# Altium schematic symbol library CAS_MainBoard.SchLib: 15 symbols
Pins are listed as number, name and electrical type; pins without a type are passive.

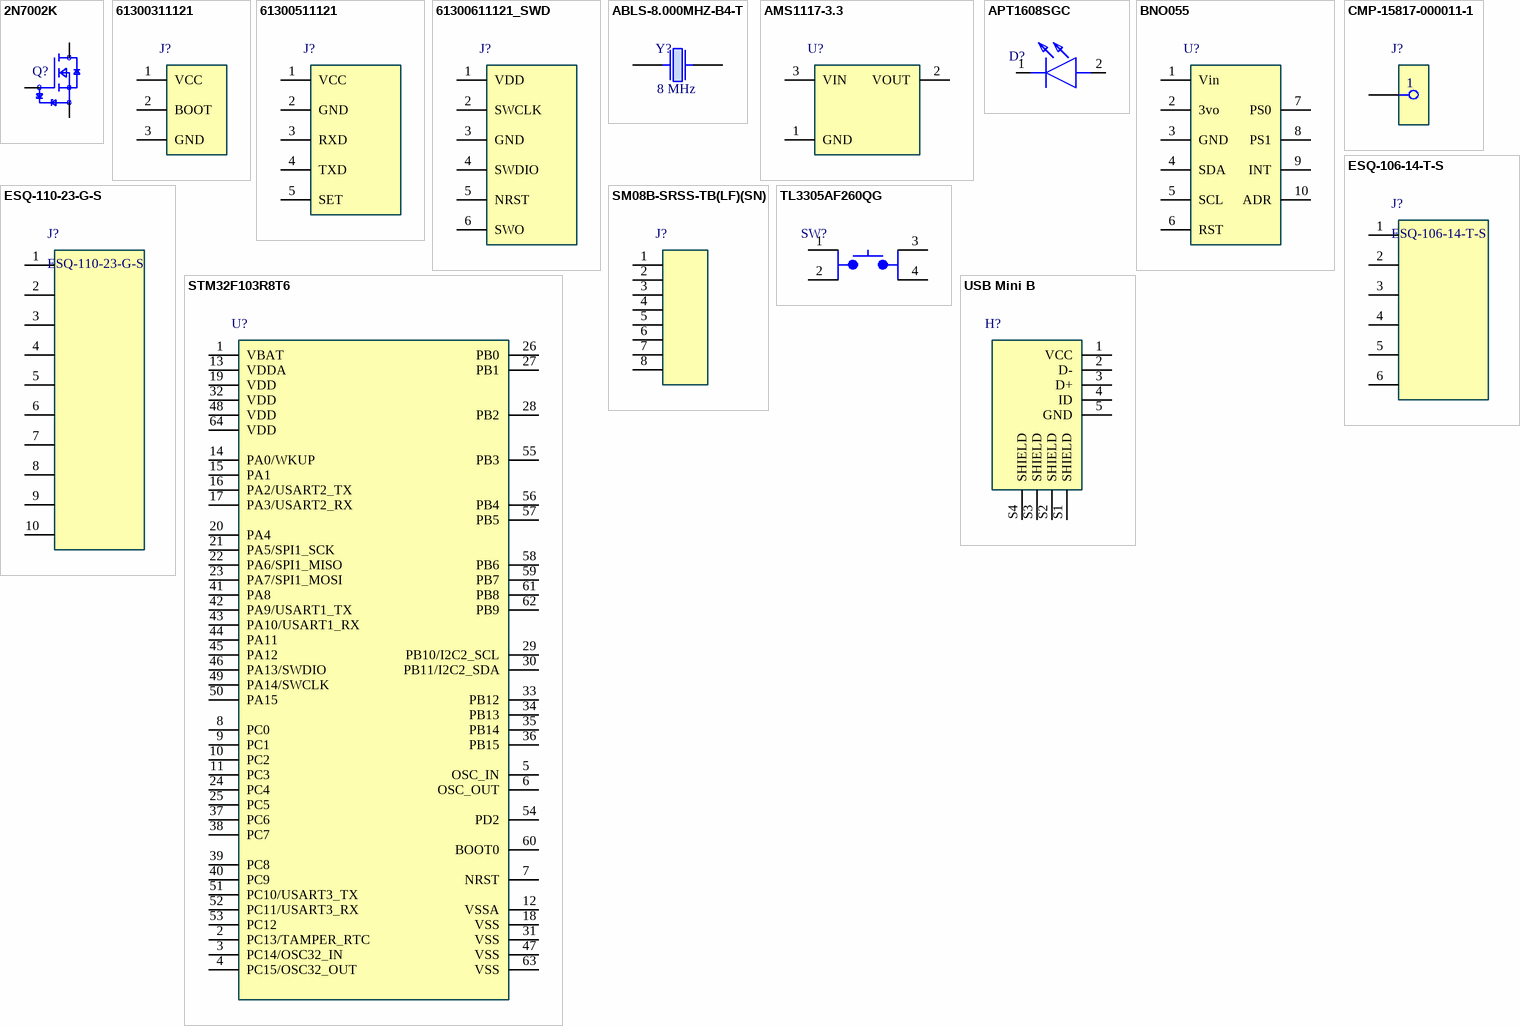
[diagram p0: symbols 2N7002K to USB Mini B]

## 2N7002K
designator Q?  (value not drawn)
MOSFET N-CH 60V 320MA SOT23; Manufacturer: ON Semiconductor / Fairchild; Continuous Drain Current (ID): 300mA; Drain to Source Resistance: 2R; Power Dissipation: 350mW; Turn-Off Delay Time: 30ns; Gate to Source Voltage (Vgs): 20V; Input Capacitance: 50pF; Turn-On Delay Time: 5ns; Polarity: N-CHANNEL; Threshold Voltage: 2.5V; Designed by: ADAK; Supplier 1: Digi-Key; Manufacturer Part Number: 2N7002K; RoHS: Yes; Stock 1: 15630; Pricing 1: 1=0,34, 10=0,236, 100=0,1194, 500=0,09738, 1000=0,07225 (USD); Mount: Surface Mount; Case/Package: TO-236-3; Number of Pins: 3; Min Operating Temperature: -55°C; Max Operating Temperature: 150°C; Max Power Dissipation: 350mW; Packaging: Tape and Reel; Package Quantity: 3000; Rds On Max: 2R; Drain to Source Breakdown Voltage: 60V; Drain to Source Voltage (Vdss): 60V; Series: -; Drain-source On Resistance-Max: 2R; Voltage: 60V; Length: 2.92mm; Width: 1.3mm; Height: 1.2mm; Lead Free: Lead Free; RoHS Compliant: No; Reach SVHC Compliant: No; ComponentLink1URL: https://datasheet.ciiva.com/3304/2n7002k-3304391.pdf?src-supplier=Avnet; ComponentLink1Description: https://datasheet.ciiva.com/3304/2n7002k-3304391.pdf?src-supplier=Avnet; ComponentLink2URL: https://datasheet.ciiva.com/15208/getdatasheetpartid-250560-15208446.pdf?src-supplier=Verical; ComponentLink2Description: https://datasheet.ciiva.com/15208/getdatasheetpartid-250560-15208446.pdf?src-supplier=Verical; ComponentLink3URL: https://datasheet.ciiva.com/46422/1868855-46422103.pdf?src-supplier=Element14; ComponentLink3Description: https://datasheet.ciiva.com/46422/1868855-46422103.pdf?src-supplier=Element14; ComponentLink4URL: https://datasheet.ciiva.com/16822/2n7002k-16822423.pdf?src-supplier=Future+Electronics; ComponentLink4Description: https://datasheet.ciiva.com/16822/2n7002k-16822423.pdf?src-supplier=Future+Electronics; Supplier Part Number 1: 2N7002KCT-ND
footprint SOT23-3
pins: 1 G, 2 S, 3 D

## 61300311121
designator J?  (value not drawn)
CONN HEADER VERT 3POS 2.54MM; Manufacturer: Wurth Electronics; Number of Positions: 3; Gender: Male; Contact Resistance: 20mR; Current Rating: 3A; Operating Supply Voltage: 250V; Pitch: 0.1inch; Designed by: ADAK; Supplier 1: Digi-Key; Manufacturer Part Number: 61300311121; RoHS: Yes; Category: Connectors; Stock 1: 245320; Pricing 1: 1=0,13, 10=0,113, 25=0,094, 50=0,079, 100=0,071, 1000=0,066 (USD); Mount: Through Hole; Contact Plating: Gold; Contact Material: Copper; Color: Black; Min Operating Temperature: -40°C; Max Operating Temperature: 105°C; Number of Rows: 1; Packaging: Bulk; Termination: Solder; Number of Contacts: 3; Series: WR-PHD; Contact Type: Male Pin; Orientation: 5495OrientationType; Voltage Rating: 250V; Height: 8.94mm; Contact Mating Length: 0.236inch; Lead Free: Lead Free; RoHS Compliant: Yes; Reach SVHC Compliant: Unknown; ComponentLink1URL: http://www.farnell.com/cad/1737268.pdf?src-supplier=Element14; ComponentLink1Description: http://www.farnell.com/cad/1737268.pdf?src-supplier=Element14; ComponentLink2URL: https://datasheet.octopart.com/61300311121-W%C3%BCrth-Elektronik-datasheet-21154836.pdf?src-supplier=Element14; ComponentLink2Description: https://datasheet.octopart.com/61300311121-W%C3%BCrth-Elektronik-datasheet-21154836.pdf?src-supplier=Element14; ComponentLink3URL: https://katalog.we-online.de/em/datasheet/6130xx11121.pdf?src-supplier=Digi-Key; ComponentLink3Description: https://katalog.we-online.de/em/datasheet/6130xx11121.pdf?src-supplier=Digi-Key; Supplier Part Number 1: 732-5316-ND
footprint BOOT HEADER
pins: 1 VCC, 2 BOOT, 3 GND

## 61300511121
designator J?  (value not drawn)
CONN HEADER VERT 5POS 2.54MM; Manufacturer: Wurth Electronics; Number of Positions: 5; Gender: Male; Pitch: 0.1inch; Designed by: ADAK; Supplier 1: Digi-Key; Manufacturer Part Number: 61300511121; RoHS: Yes; Category: Headers and Wire Housings; Stock 1: 26862; Pricing 1: 1=0,26, 10=0,222, 25=0,1852, 50=0,155, 100=0,141, 1000=0,128 (USD); Mount: Through Hole; Contact Plating: Gold; Contact Material: Copper; Color: Black; Number of Rows: 1; Packaging: Bulk; Termination: Solder; Number of Contacts: 5; Series: WR-PHD; Contact Type: Male Pin; Contact Mating Length: 0.236inch; Lead Free: Lead Free; RoHS Compliant: Yes; Reach SVHC Compliant: Unknown; ComponentLink1URL: http://www.farnell.com/cad/1737268.pdf?src-supplier=Element14; ComponentLink1Description: http://www.farnell.com/cad/1737268.pdf?src-supplier=Element14; ComponentLink2URL: https://datasheet.octopart.com/61300511121-W%C3%BCrth-Elektronik-datasheet-21154836.pdf?src-supplier=Element14; ComponentLink2Description: https://datasheet.octopart.com/61300511121-W%C3%BCrth-Elektronik-datasheet-21154836.pdf?src-supplier=Element14; ComponentLink3URL: https://katalog.we-online.de/em/datasheet/6130xx11121.pdf?src-supplier=Digi-Key; ComponentLink3Description: https://katalog.we-online.de/em/datasheet/6130xx11121.pdf?src-supplier=Digi-Key; Supplier Part Number 1: 732-5318-ND
footprint CONN 5POS
pins: 1 VCC, 2 GND, 3 RXD, 4 TXD, 5 SET

## 61300611121_SWD
designator J?, comment 61300611121  (value not drawn)
CONN HEADER VERT 6POS 2.54MM; Manufacturer: Wurth Electronics; Current Rating: 3A; Voltage Rating: 250V; Number of Positions: 6; Gender: Male; Contact Resistance: 20mR; Pitch: 0.1inch; Designed by: ADAK; Supplier 1: Digi-Key; Manufacturer Part Number: 61300611121; RoHS: Yes; Category: Headers and Wire Housings; Stock 1: 29677; Pricing 1: 1=0,35, 10=0,298, 25=0,2472, 50=0,207, 100=0,187, 1000=0,171 (USD); Mount: Through Hole; Contact Plating: Gold; Contact Material: Copper Alloy,Copper; Housing Material: PBT; Color: Black; Min Operating Temperature: -40°C; Max Operating Temperature: 125°C; Number of Rows: 1; Contact Gender: Male; Packaging: Bulk; Termination: Through Hole; Number of Contacts: 6; Series: WR-PHD; Contact Type: Male Pin; Operating Supply Voltage: 250V; Orientation: 5495OrientationType; Height: 8.89mm; Contact Mating Length: 0.236inch; Lead Free: Lead Free; RoHS Compliant: Yes; Reach SVHC Compliant: Unknown; ComponentLink1URL: http://www.mouser.com/ds/2/445/6130xx11121-538006.pdf?src-supplier=Mouser; ComponentLink1Description: http://www.mouser.com/ds/2/445/6130xx11121-538006.pdf?src-supplier=Mouser; ComponentLink2URL: http://www.farnell.com/cad/1737268.pdf?src-supplier=Element14; ComponentLink2Description: http://www.farnell.com/cad/1737268.pdf?src-supplier=Element14; ComponentLink3URL: https://datasheet.octopart.com/61300611121-W%C3%BCrth-Elektronik-datasheet-21154836.pdf?src-supplier=Element14; ComponentLink3Description: https://datasheet.octopart.com/61300611121-W%C3%BCrth-Elektronik-datasheet-21154836.pdf?src-supplier=Element14; ComponentLink4URL: https://katalog.we-online.de/em/datasheet/6130xx11121.pdf?src-supplier=Digi-Key; ComponentLink4Description: https://katalog.we-online.de/em/datasheet/6130xx11121.pdf?src-supplier=Digi-Key; Supplier Part Number 1: 732-5319-ND
footprint SWD HEADER
pins: 1 VDD, 2 SWCLK, 3 GND, 4 SWDIO, 5 NRST, 6 SWO

## ABLS-8.000MHZ-B4-T
designator Y?  Frequency: 8 MHz  (hidden comment: ABLS-8.000MHZ-B4-T)
CRYSTAL 8.0000MHZ 18PF SMD; Manufacturer: Abracon; Designed by: ADAK; Supplier 1: Digi-Key; Manufacturer Part Number: ABLS-8.000MHZ-B4-T; RoHS: Yes; Category: Crystals; Stock 1: 30282; Pricing 1: 1=0,2, 10=0,17, 50=0,153, 100=0,136, 500=0,12916 (USD); ComponentLink1URL: https://datasheet.ciiva.com/4944/abls-44621-4944748.pdf?src-supplier=Mouser; ComponentLink1Description: https://datasheet.ciiva.com/4944/abls-44621-4944748.pdf?src-supplier=Mouser; ComponentLink2URL: https://datasheet.ciiva.com/3175/abls-3175446.pdf?src-supplier=Avnet; ComponentLink2Description: https://datasheet.ciiva.com/3175/abls-3175446.pdf?src-supplier=Avnet; ComponentLink3URL: https://datasheet.ciiva.com/854/abls-854117.pdf?src-supplier=Digi-Key; ComponentLink3Description: https://datasheet.ciiva.com/854/abls-854117.pdf?src-supplier=Digi-Key; ComponentLink4URL: https://datasheet.ciiva.com/854/abls-854118.pdf?src-supplier=Digi-Key; ComponentLink4Description: https://datasheet.ciiva.com/854/abls-854118.pdf?src-supplier=Digi-Key; ComponentLink5URL: https://datasheet.ciiva.com/854/abls-854119.pdf?src-supplier=Digi-Key; ComponentLink5Description: https://datasheet.ciiva.com/854/abls-854119.pdf?src-supplier=Digi-Key; Supplier Part Number 1: 535-10212-1-ND
footprint OSCILLATOR
pins: 1, 2

## AMS1117-3.3
designator U?  (value not drawn)
Low Dropout Voltage Regulatator SOT-223 1A 3.3V; Designed byy: ADAK; Package: SOT-223; Voltage-Output(Fixed): 3.3V; Current: 1A
footprint SOT-223
pins: 1 GND, 2 VOUT, 3 VIN

## APT1608SGC
designator D?  (value not drawn)
LED GREEN CLEAR 0603 SMD; Manufacturer: Kingbright; Forward Voltage: 2.2V; Viewing Angle: 120°; Forward Current: 20mA; Luminous Intensity: 15mcd; Lens Style: Clear,Flat; Dominant Wavelength: 568nm; Number of LEDs: 1; Designed by: ADAK; Supplier 1: Digi-Key; Manufacturer Part Number: APT1608SGC; RoHS: Yes; Category: LEDs; Stock 1: 140236; Pricing 1: 1=0,29, 10=0,23, 100=0,1033, 500=0,09332, 1000=0,07666 (USD); Mount: Surface Mount; Case/Package: 0603; Number of Pins: 2; Color: Green; Case Code (Metric): 1608; Case Code (Imperial): 0603; Lens Color: Clear; Min Operating Temperature: -40°C; Max Operating Temperature: 85°C; Package Quantity: 2000; Illumination Color: Green; Packaging: Tape and Reel; Test Current: 20mA; Wavelength: 568nm; Series: APT; Length: 1.6mm; Width: 0.8mm; Height: 0.75mm; Lead Free: Lead Free; RoHS Compliant: Yes; ComponentLink1URL: https://datasheet.ciiva.com/12400/apt1608sgc-32861-12400932.pdf?src-supplier=Mouser; ComponentLink1Description: https://datasheet.ciiva.com/12400/apt1608sgc-32861-12400932.pdf?src-supplier=Mouser; ComponentLink2URL: https://datasheet.ciiva.com/2113/apt1608sgc-2113808.pdf?src-supplier=Digi-Key; ComponentLink2Description: https://datasheet.ciiva.com/2113/apt1608sgc-2113808.pdf?src-supplier=Digi-Key; ComponentLink3URL: https://datasheet.ciiva.com/14603/70062839-14603927.pdf?src-supplier=Allied+Electronics; ComponentLink3Description: https://datasheet.ciiva.com/14603/70062839-14603927.pdf?src-supplier=Allied+Electronics; Supplier Part Number 1: 754-1121-1-ND
footprint LED GREEN
pins: 1 K, 2 A

## BNO055
designator U?  (value not drawn)
IMU ACCEL/GYRO/MAG I2C 28LGA; Manufacturer: Bosch; Designed by: ADAK; Supplier 1: Future Electronics; Manufacturer Part Number: BNO055; RoHS: No; Category: Inertial Measurement Units (IMUs); Pricing 1: 4000=6,41 (USD); ComponentLink1URL: https://ae-bst.resource.bosch.com/media/_tech/media/application_notes/BST-BNO055-HS000.pdf ?src-supplier=Digi-Key; ComponentLink1Description: https://ae-bst.resource.bosch.com/media/_tech/media/application_notes/BST-BNO055-HS000.pdf ?src-supplier=Digi-Key; ComponentLink2URL: https://datasheet.octopart.com/BNO055-Bosch-Sensortec-datasheet-127364294.pdf?src-supplier=LKR; ComponentLink2Description: https://datasheet.octopart.com/BNO055-Bosch-Sensortec-datasheet-127364294.pdf?src-supplier=LKR; Supplier Part Number 1: 8159159
footprint BNO055
pins: 1 Vin, 2 3vo, 3 GND, 4 SDA, 5 SCL, 6 RST, 7 PS0, 8 PS1, 9 INT, 10 ADR

## CMP-15817-000011-1
designator J?  (value not drawn)
PC TEST POINT NATURAL; Body Material: Brass; Plating: Tin; Designed by: ADAK; Material: Copper Alloy; Mount: Surface Mount; Color: Natural; Packaging: Tape and Reel; RoHS Compliant: Yes
footprint PC TEST POINT
pins: 1

## ESQ-106-14-T-S
designator J?
CONN SOCKET 6POS 0.1 TIN PCB; Manufacturer: Samtec; Designed by: ADAK; Supplier 1: Digi-Key; Manufacturer Part Number: ESQ-106-14-T-S; RoHS: Yes; Category: Connectors; Stock 1: 1096; Pricing 1: 1=1,61, 10=1,4, 100=1,2514, 500=1,04282, 1000=0,89385, 5000=0,79255, 10000=0,77467 (USD); ComponentLink1URL: http://www.farnell.com/datasheets/1992053.pdf?src-supplier=Farnell; ComponentLink1Description: http://www.farnell.com/datasheets/1992053.pdf?src-supplier=Farnell; ComponentLink2URL: http://suddendocs.samtec.com/catalog_english/esq_th.pdf?src-supplier=Digi-Key; ComponentLink2Description: http://suddendocs.samtec.com/catalog_english/esq_th.pdf?src-supplier=Digi-Key; ComponentLink3URL: http://www.samtec.com/documents/webfiles/pdf/ESW_TH.PDF?src-supplier=Avnet; ComponentLink3Description: http://www.samtec.com/documents/webfiles/pdf/ESW_TH.PDF?src-supplier=Avnet; ComponentLink4URL: https://datasheet.octopart.com/ESQ-106-14-T-S-Samtec-datasheet-118235298.pdf?src-supplier=Sager+Electronics; ComponentLink4Description: https://datasheet.octopart.com/ESQ-106-14-T-S-Samtec-datasheet-118235298.pdf?src-supplier=Sager+Electronics; ComponentLink5URL: https://datasheet.octopart.com/ESQ-106-14-T-S-Samtec-datasheet-96977576.pdf?src-supplier=Samtec; ComponentLink5Description: https://datasheet.octopart.com/ESQ-106-14-T-S-Samtec-datasheet-96977576.pdf?src-supplier=Samtec; ComponentLink6URL: https://datasheet.octopart.com/ESQ-106-14-T-S-Samtec-datasheet-136395355.pdf?src-supplier=Toby+Electronics; ComponentLink6Description: https://datasheet.octopart.com/ESQ-106-14-T-S-Samtec-datasheet-136395355.pdf?src-supplier=Toby+Electronics; Supplier Part Number 1: SAM9298-ND
footprint CONN 6POS
pins: 1, 2, 3, 4, 5, 6

## ESQ-110-23-G-S
designator J?
CONN SOCKET 10POS 0.1 GOLD PCB; Manufacturer: Samtec; Gender: Receptacle; Number of Positions: 10; Max Current Rating: 6.9A; Max Voltage Rating (AC): 550V; Contact Resistance: 10mR; Pitch: 2.54mm; Designed by: ADAK; Supplier 1: Digi-Key; Manufacturer Part Number: ESQ-110-23-G-S; RoHS: Yes; Category: Headers and Wire Housings; Stock 1: 2188; Pricing 1: 1=4,37, 10=3,966, 100=3,4946, 500=2,9704, 1000=2,53358 (USD); Contact Material: Bronze; Contact Plating: Gold; Contact Finish - Mating: GOLD; Insulation Color: Black; Insulation Material: Polymer; Contact Shape: Square; Housing Color: Black; Housing Material: Polyester; Min Operating Temperature: -55°C; Max Operating Temperature: 125°C; Number of Rows: 1; Packaging: Rail/Tube; Termination: Solder; Series: ESQ; Contact Type: Forked; Number of Contacts: 10; Fastening Type: Pull; Orientation: Straight; Voltage Rating (AC): 550V; Length: 25.91mm; Depth: 2.41mm; Radiation Hardening: No; RoHS Compliant: Yes; Flammability Rating: UL94 V-0; Reach SVHC Compliant: No; ComponentLink1URL: https://www.verical.com/server-webapp/html/getDatasheet?partID=303742&src-supplier=Verical; ComponentLink1Description: https://www.verical.com/server-webapp/html/getDatasheet?partID=303742&src-supplier=Verical; ComponentLink2URL: http://www.farnell.com/datasheets/1992053.pdf?src-supplier=Farnell; ComponentLink2Description: http://www.farnell.com/datasheets/1992053.pdf?src-supplier=Farnell; ComponentLink3URL: http://components.arrow.com/part/dataview/2752997S7330441N1004?src-supplier=Arrow+Electronics; ComponentLink3Description: http://components.arrow.com/part/dataview/2752997S7330441N1004?src-supplier=Arrow+Electronics; ComponentLink4URL: http://www.samtec.com/documents/webfiles/pdf/ESW_TH.PDF?src-supplier=Avnet; ComponentLink4Description: http://www.samtec.com/documents/webfiles/pdf/ESW_TH.PDF?src-supplier=Avnet; ComponentLink5URL: http://suddendocs.samtec.com/prints/esq-1xx-xx-x-x-xxx-xx-x-xx-mkt.pdf?src-supplier=Digi-Key; ComponentLink5Description: http://suddendocs.samtec.com/prints/esq-1xx-xx-x-x-xxx-xx-x-xx-mkt.pdf?src-supplier=Digi-Key; Supplier Part Number 1: SAM11097-ND
footprint CONN 10POS
pins: 1, 2, 3, 4, 5, 6, 7, 8, 9, 10

## SM08B-SRSS-TB(LF)(SN)
designator J?  (value not drawn)
CONN HEADER SMD R/A 8POS 1MM; Manufacturer: JST; Designed by: ADAK; Supplier 1: Farnell; Manufacturer Part Number: SM08B-SRSS-TB(LF)(SN); RoHS: Yes; Category: Connectors; Stock 1: 75448; Pricing 1: 10=0,498, 100=0,372, 500=0,364, 1000=0,357, 2500=0,349, 5000=0,342 (EUR); ComponentLink1URL: https://datasheet.ciiva.com/11752/0900766b8082f54b-11752174.pdf?src-supplier=Rs; ComponentLink1Description: https://datasheet.ciiva.com/11752/0900766b8082f54b-11752174.pdf?src-supplier=Rs; ComponentLink2URL: https://datasheet.ciiva.com/8052/91630-8052285.pdf?src-supplier=Element14; ComponentLink2Description: https://datasheet.ciiva.com/8052/91630-8052285.pdf?src-supplier=Element14; ComponentLink3URL: https://datasheet.ciiva.com/729/esr-729838.pdf?src-supplier=Digi-Key; ComponentLink3Description: https://datasheet.ciiva.com/729/esr-729838.pdf?src-supplier=Digi-Key; ComponentLink4URL: https://datasheet.ciiva.com/712/esr-712599.pdf?src-supplier=Digi-Key; ComponentLink4Description: https://datasheet.ciiva.com/712/esr-712599.pdf?src-supplier=Digi-Key; ComponentLink5URL: https://datasheet.ciiva.com/712/esr-712600.pdf?src-supplier=Digi-Key; ComponentLink5Description: https://datasheet.ciiva.com/712/esr-712600.pdf?src-supplier=Digi-Key; ComponentLink6URL: https://datasheet.ciiva.com/16487/esr-16487087.pdf?src-supplier=Future+Electronics; ComponentLink6Description: https://datasheet.ciiva.com/16487/esr-16487087.pdf?src-supplier=Future+Electronics; Supplier Part Number 1: 1679124
footprint 8 PIN HEADER
pins: 1, 2, 3, 4, 5, 6, 7, 8

## STM32F103R8T6
designator U?  (value not drawn)
IC MCU 32BIT 64KB 72MHz FLASH 64LQFP; Manufacturer: STMicroelectronics; RAM Size: 20KB; Max Power Dissipation: 444mW; Interface: I2C,SPI,USB,IrDA,UART,USART,CAN,LIN; Number of I/Os: 51; Number of Timers/Counters: 4; Max Supply Voltage: 3.6V; Number of ADC Channels: 16; Min Supply Voltage: 2V; Oscillator Type: Internal; Number of Programmable I/O: 64; Data Bus Width: 32b; Watchdog Timer: Yes; Peripherals: POR,PWM,WDT,DMA,Temp Sensor,I2C; Core Architecture: ARM; Number of PWM Channels: 1; Number of Bits: 32; Number of SPI Channels: 2; Designed by: ADAK; Manufacturer Part Number: STM32F103R8T6; RoHS: Yes; Category: Microcontrollers; Stock 1: 2429; Pricing 1: 1=6,91, 10=6,239, 25=5,9492, 160=5,1655, 320=4,93334, 480=4,49804, 960=3,91765, 2400=3,77255 (USD); Case/Package: LQFP; Number of Pins: 64; Min Operating Temperature: -40°C; Max Operating Temperature: 85°C; Frequency: 72MHz; Package Quantity: 160; Packaging: Tray; Max Frequency: 72MHz; Memory Type: FLASH; Memory Size: 64KB; Series: STM32F1; Density: 64KB; Number of I2C Channels: 2; Termination: SMD/SMT; Address Bus Width: 32b; Length: 10mm; Width: 10mm; Height: 1.45mm; Radiation Hardening: No; Lead Free: Lead Free; RoHS Compliant: Yes; Reach SVHC Compliant: No; Supplier Part Number 1: 497-6065-ND; Supplier 1: Digi-Key
footprint LQFP 64
pins: 1 VBAT, 2 PC13/TAMPER_RTC, 3 PC14/OSC32_IN, 4 PC15/OSC32_OUT, 5 OSC_IN, 6 OSC_OUT, 7 NRST, 8 PC0, 9 PC1, 10 PC2, 11 PC3, 12 VSSA, 13 VDDA, 14 PA0/WKUP, 15 PA1, 16 PA2/USART2_TX, 17 PA3/USART2_RX, 18 VSS, 19 VDD, 20 PA4, 21 PA5/SPI1_SCK, 22 PA6/SPI1_MISO, 23 PA7/SPI1_MOSI, 24 PC4, 25 PC5, 26 PB0, 27 PB1, 28 PB2, 29 PB10/I2C2_SCL, 30 PB11/I2C2_SDA, 31 VSS, 32 VDD, 33 PB12, 34 PB13, 35 PB14, 36 PB15, 37 PC6, 38 PC7, 39 PC8, 40 PC9, 41 PA8, 42 PA9/USART1_TX, 43 PA10/USART1_RX, 44 PA11, 45 PA12, 46 PA13/SWDIO, 47 VSS, 48 VDD, 49 PA14/SWCLK, 50 PA15, 51 PC10/USART3_TX, 52 PC11/USART3_RX, 53 PC12, 54 PD2, 55 PB3, 56 PB4, 57 PB5, 58 PB6, 59 PB7, 60 BOOT0, 61 PB8, 62 PB9, 63 VSS, 64 VDD

## TL3305AF260QG
designator SW?  (value not drawn)
SWITCH TACTILE SPST-NO 50MA 12V; Manufacturer: E-Switch; Mechanical Life: 200000Cycles; Illumination Type: Non-Illuminated; Operating Force: 260gf; Throw Configuration: SPST; Switch Travel: 0.2mm; Switch Function: Off-Mom; Actuator Type: Standard; Designed by: ADAK; Supplier 1: Digi-Key; Manufacturer Part Number: TL3305AF260QG; RoHS: No; Category: Tactile Switches; Stock 1: 54069; Pricing 1: 1=0,21, 10=0,205, 25=0,1944, 100=0,176, 250=0,16048, 500=0,14918, 1000=0,12726 (USD); Mount: Surface Mount; Min Operating Temperature: -20°C; Max Operating Temperature: 70°C; Packaging: Cut Tape; Termination: Gull Wing; Series: TL3305; Lead Free: Lead Free; ComponentLink1URL: http://www.farnell.com/datasheets/2554191.pdf?src-supplier=Farnell; ComponentLink1Description: http://www.farnell.com/datasheets/2554191.pdf?src-supplier=Farnell; ComponentLink2URL: http://www.farnell.com/datasheets/2554191.pdf?src-supplier=Newark; ComponentLink2Description: http://www.farnell.com/datasheets/2554191.pdf?src-supplier=Newark; ComponentLink3URL: http://spec_sheets.e-switch.com/specs/P010471.pdf?src-supplier=Mouser; ComponentLink3Description: http://spec_sheets.e-switch.com/specs/P010471.pdf?src-supplier=Mouser; ComponentLink4URL: http://www.farnell.com/datasheets/2554191.pdf?src-supplier=Element14; ComponentLink4Description: http://www.farnell.com/datasheets/2554191.pdf?src-supplier=Element14; ComponentLink5URL: http://spec_sheets.e-switch.com/specs/P010471.pdf?src-supplier=Digi-Key; ComponentLink5Description: http://spec_sheets.e-switch.com/specs/P010471.pdf?src-supplier=Digi-Key; ComponentLink6URL: http://spec_sheets.e-switch.com/specs/P010471.pdf?src-supplier=NAC+Semi; ComponentLink6Description: http://spec_sheets.e-switch.com/specs/P010471.pdf?src-supplier=NAC+Semi; Supplier Part Number 1: EG5353CT-ND
footprint BUTTON
pins: 1, 2, 3, 4

## USB Mini B
designator H?, comment 690-005-299-043  (value not drawn)
CONN RCPT USB2.0 MINI B SMD R/A; Manufacturer: EDAC; Connector Type: USB; Number of Contacts: 5; Gender: Receptacle; Number of Ports: 1; Mating Cycles: 1500; Shielding: Unshielded; Pitch: 0.8mm; Designed by: ADAK; Supplier 1: Digi-Key; Manufacturer Part Number: 690-005-299-043; RoHS: No; Category: USB Connectors; Stock 1: 50183; Pricing 1: 1=0,65, 10=0,564, 25=0,5152, 50=0,4848, 100=0,4646, 250=0,4242, 500=0,404 (USD); Mount: Surface Mount,Horizontal; Color: Black; Contact Material: Bronze; Contact Plating: Gold; Housing Material: Thermoplastic; Insulation Color: Black; Min Operating Temperature: -30°C; Max Operating Temperature: 80°C; Packaging: Cut Tape; Termination: Solder; Orientation: Right Angle; Series: 690; Lead Free: Lead Free; Flammability Rating: UL94 V-0; ComponentLink1URL: https://datasheet.ciiva.com/30246/690-005-299-043-30246515.pdf?src-supplier=Onlinecomponents.com; ComponentLink1Description: https://datasheet.ciiva.com/30246/690-005-299-043-30246515.pdf?src-supplier=Onlinecomponents.com; ComponentLink2URL: https://datasheet.ciiva.com/29660/690-005-299-043-29660027.pdf?src-supplier=Digi-Key; ComponentLink2Description: https://datasheet.ciiva.com/29660/690-005-299-043-29660027.pdf?src-supplier=Digi-Key; ComponentLink3URL: https://datasheet.ciiva.com/29660/690-005-299-043-29660028.pdf?src-supplier=Digi-Key; ComponentLink3Description: https://datasheet.ciiva.com/29660/690-005-299-043-29660028.pdf?src-supplier=Digi-Key; ComponentLink4URL: https://datasheet.ciiva.com/29660/690-005-299-043-29660029.pdf?src-supplier=Digi-Key; ComponentLink4Description: https://datasheet.ciiva.com/29660/690-005-299-043-29660029.pdf?src-supplier=Digi-Key; Supplier Part Number 1: 151-1206-1-ND
footprint USB
pins: 1 VCC, 2 D-, 3 D+, 4 ID, 5 GND, S1 SHIELD, S2 SHIELD, S3 SHIELD, S4 SHIELD